# EAGLE library part WE-FLEX_ER14.5/6 (library Wurth_Power Magnetics_WE-FLEX)
WE-FLEX Flexible Transformer for DC/DC Converter Characteristics Transformer with 6 identical windings 4 sizes with 5 different lengths of air gap each Insulation test voltage 500 VAC Low leakage inductance Operating temperature: –40 ºC to +125 ºC By using different circuits more than 375 transformer solutions and about 125 choke solutions possible. Consequently, quick prototyping possibilities Applications All kind of switching regulators -Flyback converters -Forward converters -Push-pull converters -Step-up/step-down converters -SEPIC converter <https://katalog.we-online.com/media/images/v2/o14787v209%20Family_WE-FLEX.jpg> Details see: https://katalog.we-online.com/en/pbs/WE-FLEX Updated by Yingchun, Shan 2019-08-15 2019 (C) Wurth Elektronik
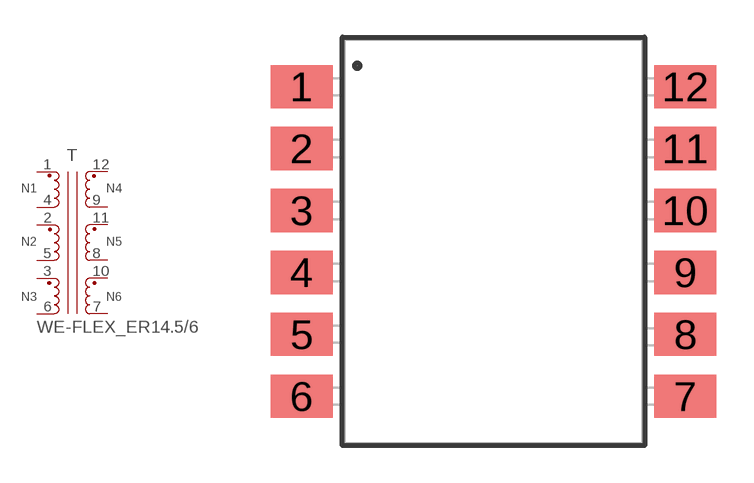
[diagram p2: symbol with the pads of WE-FLEX_ER14.5/6; footprint WE-FLEX_ER14.5/6]

Designator prefix T

## WE-FLEX_ER14.5/6_749196201 (DATASHEET-URL: https://katalog.we-online.com/pbs/datasheet/749196201.pdf; IRBASE: 0.95A; ISATBASE: 0.02A; LSBASE: 0.17uH; N: 1:1:1:1:1:1; PART-NUMBER: 749196201; RDCBASE: 159mOhm; VALUE: 140uH; VOLTAGE-USECONDBASE: 48.3uVs; VT: 500 V (AC)), WE-FLEX_ER14.5/6_749196211 (DATASHEET-URL: https://katalog.we-online.com/pbs/datasheet/749196211.pdf; IRBASE: 0.95A; ISATBASE: 0.36A; LSBASE: 0.17uH; N: 1:1:1:1:1:1; PART-NUMBER: 749196211; RDCBASE: 159mOhm; VALUE: 21.6uH; VOLTAGE-USECONDBASE: 48.3uVs; VT: 500 V (AC)), WE-FLEX_ER14.5/6_749196221 (DATASHEET-URL: https://katalog.we-online.com/pbs/datasheet/749196221.pdf; IRBASE: 0.95A; ISATBASE: 0.84A; LSBASE: 0.17uH; N: 1:1:1:1:1:1; PART-NUMBER: 749196221; RDCBASE: 159mOhm; VALUE: 11.6uH; VOLTAGE-USECONDBASE: 48.3uVs; VT: 500 V (AC)), WE-FLEX_ER14.5/6_749196231 (DATASHEET-URL: https://katalog.we-online.com/pbs/datasheet/749196231.pdf; IRBASE: 0.95A; ISATBASE: 1.2A; LSBASE: 0.17uH; N: 1:1:1:1:1:1; PART-NUMBER: 749196231; RDCBASE: 159mOhm; VALUE: 8.3uH; VOLTAGE-USECONDBASE: 48.3uVs; VT: 500 V (AC)), WE-FLEX_ER14.5/6_749196241 (DATASHEET-URL: https://katalog.we-online.com/pbs/datasheet/749196241.pdf; IRBASE: 0.95A; ISATBASE: 1.55A; LSBASE: 0.17uH; N: 1:1:1:1:1:1; PART-NUMBER: 749196241; RDCBASE: 159mOhm; VALUE: 6.6uH; VOLTAGE-USECONDBASE: 48.3uVs; VT: 500 V (AC))  [WE-FLEX_ER14.5/6]
1  1  pas
2  3  pas
3  5  pas
4  2  pas
5  4  pas
6  6  pas
7  7  pas
8  9  pas
9  11  pas
10  8  pas
11  10  pas
12  12  pas

## Footprint WE-FLEX_ER14.5/6 (pad centres in mm)
WE-FLEX Flexible Transformer for DC/DC Converter Size: ER14.5/6 SMD 12Pin
smd 2.5 x 1.75: 1 -7.75,6.25; 2 -7.75,3.75; 3 -7.75,1.25; 4 -7.75,-1.25; 5 -7.75,-3.75; 6 -7.75,-6.25; 7 7.75,-6.25; 8 7.75,-3.75; 9 7.75,-1.25; 10 7.75,1.25; 11 7.75,3.75; 12 7.75,6.25